# Altium footprint library SM02B-SFHRS-TF.PcbLib: 1 footprints
Each footprint in its own frame and in the unit in brackets; x right, y up, seen from the top. Pads: shape width x height; smd on the part's side, far side on the other; paste and mask are expansions set on the pad; w line width, h text height; cw(c..) or ccw(c..) is an arc to the next point about the centre after c.
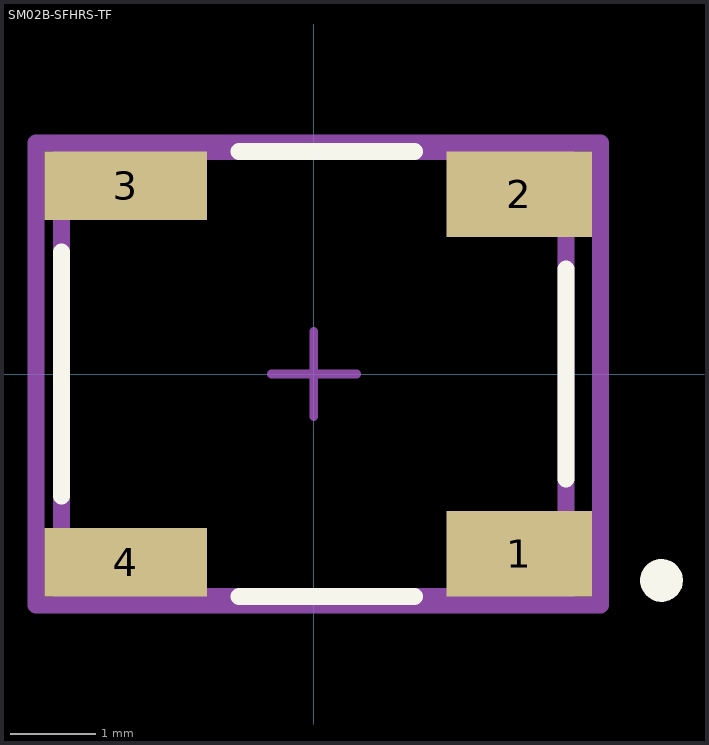
[diagram p0: the footprint, top view; thin cyan lines are the x and y axes]

## SM02B-SFHRS-TF [mm]
pads (4):
  rect 1.7x1 smd paste+0 mask+0: 1(2.4,-2.1) 2(2.4,2.1)
  rect 1.9x0.8 smd paste+0 mask+0: 3(-2.2,2.2) 4(-2.2,-2.2)
Top Overlay:
  circle w0.25: c4.064,-2.413 r0.125
  lines w0.2: -2.95,-1.425 -2.95,1.425 ; -0.875,-2.6 1.175,-2.6 ; -0.875,2.6 1.175,2.6 ; 2.95,-1.225 2.95,1.225
Top 3D Body:
  lines w0.2: -2.95,-2.6 2.95,-2.6 2.95,2.6 -2.95,2.6 -2.95,-2.6
Board:
  lines w0.2: -3.25,-2.7 3.35,-2.7 3.35,2.7 -3.25,2.7 -3.25,-2.7
Top Assembly:
  lines w0.2: -3.25,-2.7 3.35,-2.7 3.35,2.7 -3.25,2.7 -3.25,-2.7
  text ".Designator" at 0.05,0.188 h1
Top Component Center:
  lines w0.1: -0.5,0 0.5,0 ; 0,-0.5 0,0.5
3D body "Conn_JST_SM02B-SFHRS-TF_LF_SN_eec.STEP": height 3.05, standoff 0, extent -2.823,-2.601 3.077,2.6